# EAGLE library part HT12A (library holtek)
ENCODER = TRANSMITTER IC
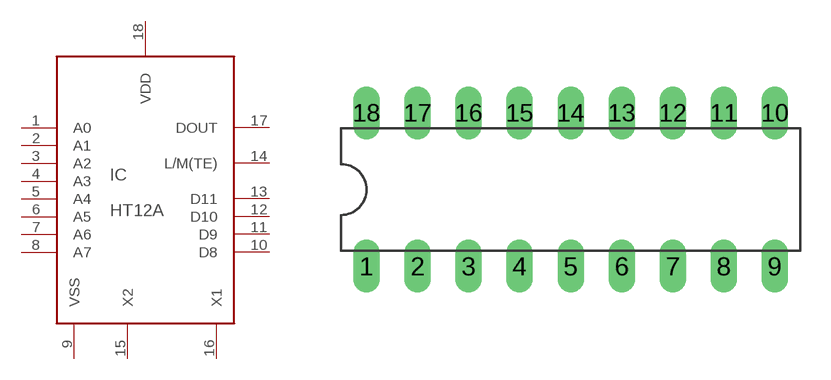
[diagram p3: symbol with the pads of 18-DIP-A; footprint 18-DIP-A]

Designator prefix IC

## HT12A  [18-DIP-A]
1  A0  in
2  A1  in
3  A2  in
4  A3  in
5  A4  in
6  A5  in
7  A6  in
8  A7  in
9  VSS  sup
10  D8  in
11  D9  in
12  D10  in
13  D11  in
14  L/M(TE)  in
15  X2  out
16  X1  in
17  DOUT  out
18  VDD  pwr

## Footprint 18-DIP-A (pad centres in mm)
18 pin DIP package, standard width 300 mil
drill 0.813 long: 1 -10.16,-3.81; 2 -7.62,-3.81; 3 -5.08,-3.81; 4 -2.54,-3.81; 5 0,-3.81; 6 2.54,-3.81; 7 5.08,-3.81; 8 7.62,-3.81; 9 10.16,-3.81; 10 10.16,3.81; 11 7.62,3.81; 12 5.08,3.81; 13 2.54,3.81; 14 0,3.81; 15 -2.54,3.81; 16 -5.08,3.81; 17 -7.62,3.81; 18 -10.16,3.81